# EAGLE library part 6PIN (library jst_eh)
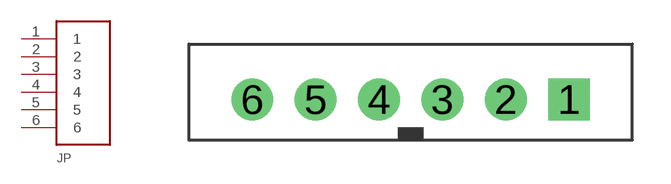
[diagram p0: symbol with the pads of B6B-EH; footprint B6B-EH]

Designator prefix JP

## 6PIN  [B6B-EH]
1  1
2  2
3  3
4  4
5  5
6  6

## Footprint B6B-EH (pad centres in mm)
drill 1.1 square: 1 6.25,0
drill 1.1: 2 3.75,0; 3 1.25,0; 4 -1.25,0; 5 -3.75,0; 6 -6.25,0